# Altium footprint library QuadraticConverterPCBLib.PcbLib: 11 footprints
Each footprint in its own frame and in the unit in brackets; x right, y up, seen from the top. Pads: shape width x height; smd on the part's side, far side on the other; paste and mask are expansions set on the pad; w line width, h text height; cw(c..) or ccw(c..) is an arc to the next point about the centre after c.
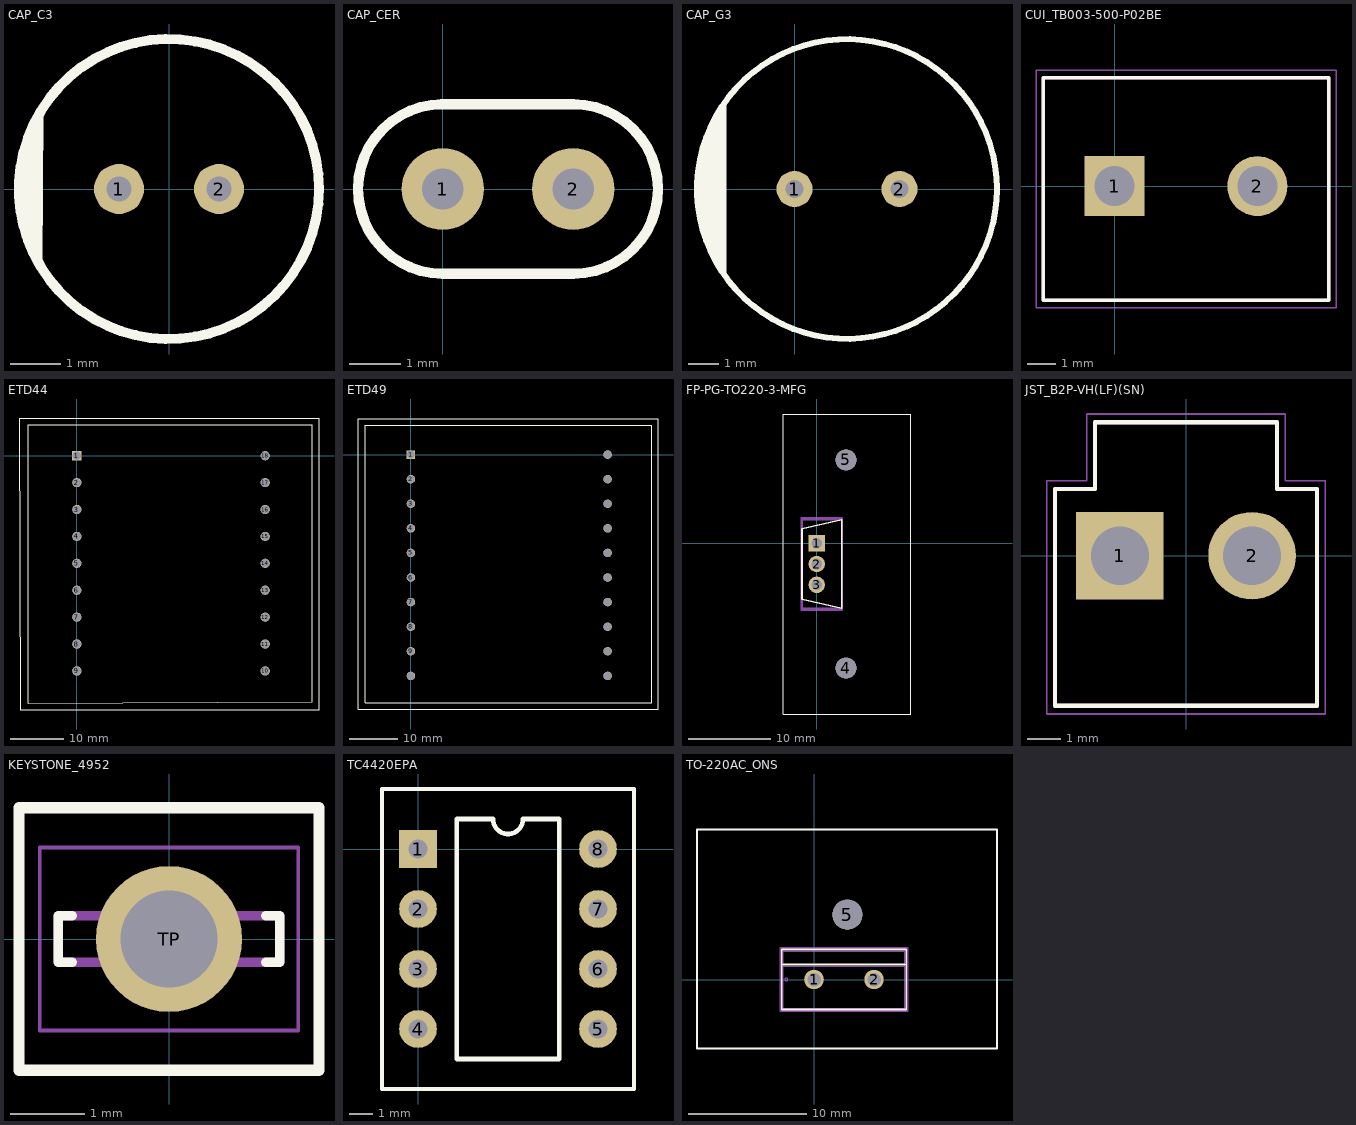
[diagram p0: the footprints below, top view; thin cyan lines are the x and y axes]

## CAP_C3 [mm]
pads (2):
  round 1 hole 0.5: 1(-1,0) 2(1,0)
Top Overlay:
  circle w0.2: c0,0 r3
  region: -2.606,-1.482 -2.703,-1.311 -2.851,-0.946 -2.95,-0.565 -2.999,-0.175 -2.996,0.219 -2.941,0.608 -2.837,0.988 -2.683,1.35 -2.583,1.52
  lines w0.152: -2.606,-1.482 -2.583,1.52
  lines w0.2: -2.606,-1.482 cw(c0,0) -2.583,1.52
3D body "ESK226M050AC3FA.STEP": height 12.5, standoff -16.75, extent -2.563,-2.551 2.429,2.449

## CAP_CER [mm]
pads (2):
  round 1.6 hole 0.8: 1(0,0) 2(2.54,0)
Top Overlay:
  lines w0.2: -0.025,1.651 2.515,1.651 ; 0,1.651 ccw(c0,0) 0,-1.651 2.54,-1.651 ccw(c2.54,0) 2.54,1.651
3D body "C320C104J3G5TA.step": height 6.34, standoff -7, extent -1.27,-1.59 3.805,1.59

## CAP_G3 [mm]
pads (2):
  round 1.2 hole 0.6: 1(0,0) 2(3.5,0)
Top Overlay:
  circle w0.2: c1.75,0 r5
  region: -2.349,-2.87 -2.495,-2.661 -2.744,-2.216 -2.946,-1.748 -3.099,-1.262 -3.202,-0.762 -3.254,-0.255 -3.254,0.255 -3.202,0.762 -3.099,1.262 -2.946,1.748 -2.744,2.216 -2.495,2.661 -2.349,2.87
  lines w0.152: -2.349,-2.87 cw(c1.75,0) -2.349,2.87 -2.349,-2.87
3D body "3D Model.STEP": height 12.5, standoff -20, extent -2.247,-4 5.753,4

## CUI_TB003-500-P02BE [mm]
pads (2):
  rect 2.1x2.1 / inner round 2.1 / far side rect 2.1x2.1 hole 1.4 mask+0.102: 1(0,0)
  round 2.1 hole 1.4 mask+0.102: 2(5,0)
Top Overlay:
  lines w0.127: -2.5,-4 7.5,-4 7.5,3.8 -2.5,3.8 -2.5,-4
Top 3D Body:
  lines w0.127: -2.5,-4 7.5,-4 7.5,3.8 -2.5,3.8 -2.5,-4
Top Courtyard:
  lines w0.05: -2.75,-4.25 -2.75,4.05 7.75,4.05 7.75,-4.25 -2.75,-4.25
3D body "step_temp.STEP": height 10.3, standoff -4, extent -2.964,-3.99 7.536,3.81

## ETD44 [mm]
pads (18):
  rect 1.75x1.75 hole 1.6: 1(0,0)
  round 1.75 hole 1.6: 2(0,-5.08) 3(0,-10.16) 4(0,-15.24) 5(0,-20.32) 6(0,-25.4) 7(0,-30.48) 8(0,-35.56) 9(0,-40.64) 10(35.56,-40.64) 11(35.56,-35.56) 12(35.56,-30.48) 13(35.56,-25.4) 14(35.56,-20.32) 15(35.56,-15.24) 16(35.56,-10.16) 17(35.56,-5.08) 18(35.56,0)
Top Overlay:
  lines w0.152: -10.922,7.112 -10.668,-48.006 45.72,-48.006 45.72,7.112 -9.144,7.112 -10.922,7.112 ; -9.144,-46.736 44.45,-46.482 44.45,5.842 -5.842,5.842 -9.144,5.842 -9.144,-46.736
3D body "User Library-ETD44.STEP": height 38.11, standoff -4.49, extent -7.769,-45.155 43.231,4.445

## ETD49 [mm]
pads (20):
  rect 1.75x1.75 hole 1.6: 1(0,0)
  round 1.75 hole 1.6: 2(0,-5.08) 3(0,-10.16) 4(0,-15.24) 5(0,-20.32) 6(0,-25.4) 7(0,-30.48) 8(0,-35.56) 9(0,-40.64) 10(0,-45.72) 11(40.64,-45.72) 12(40.64,-40.64) 13(40.64,-35.56) 14(40.64,-30.48) 15(40.64,-25.4) 16(40.64,-20.32) 17(40.64,-15.24) 18(40.64,-10.16) 19(40.64,-5.08) 20(40.64,0)
Top Overlay:
  lines w0.152: -10.922,-52.578 -10.922,7.366 12.954,7.366 51.054,7.366 51.054,-52.578 -10.922,-52.578 ; -9.398,-51.308 -9.398,6.096 21.082,6.096 49.784,6.096 49.784,-51.308 -9.398,-51.308
3D body "ETD49.STEP": height 40.57, standoff -4.39, extent -7.772,-50.026 48.438,4.674

## FP-PG-TO220-3-MFG [mm]
pads (5):
  rect 2x2 hole 1.3 paste-2539.97 mask+0: 1(0,0)
  round 2 hole 1.3 paste-2539.97 mask+0: 2(0,-2.54) 3(0,-5.08)
  round 2.54 hole 2.54 unplated: 4(3.556,-15.24) 5(3.556,10.16)
Top Overlay:
  lines w0.152: -4.064,-20.828 11.43,-20.828 11.43,15.748 -4.064,15.748 -4.064,-20.828
  lines w0.2: 3.025,-7.915 -1.805,-6.84 -1.805,1.76 3.025,2.835 ; 3.025,-7.865 3.025,2.785
Top Assembly:
  lines w0.2: -1.905,-8.142 3.125,-8.142 3.125,3.062 -1.905,3.062 -1.905,-8.142
Top 3D Body:
  lines w0.2: -1.805,-7.915 3.025,-7.915 3.025,2.835 -1.805,2.835 -1.805,-7.915
Top Courtyard:
  lines w0.2: -1.905,-8.142 3.125,-8.142 3.125,3.062 -1.905,3.062 -1.905,-8.142
Top Component Center:
  lines w0.1: 0.61,-3.04 0.61,-2.04
3D body "Trans_Infineon_IRF3710PBF_eec.STEP": height 20.85, standoff -8.23, extent -1.59,-7.655 3.243,2.605
3D body "3D Model.step": height 63.51, standoff -3.49, extent -2.844,-19.548 9.946,14.468

## JST_B2P-VH(LF)(SN) [mm]
height 10.9
pads (2):
  rect 2.625x2.625 / inner round 2.625 / far side rect 2.625x2.625 hole 1.75: 1(-1.98,0)
  round 2.625 hole 1.75: 2(1.98,0)
Top Overlay:
  lines w0.127: -3.93,-4.5 -3.93,2 -2.73,2 -2.73,4 2.73,4 2.73,2 3.93,2 3.93,-4.5 -3.93,-4.5
Top 3D Body:
  lines w0.127: -3.93,-4.5 -3.93,2 -2.73,2 -2.73,4 2.73,4 2.73,2 3.93,2 3.93,-4.5 -3.93,-4.5
Top Courtyard:
  lines w0.05: -4.18,-4.75 -4.18,2.25 -2.98,2.25 -2.98,4.25 2.98,4.25 2.98,2.25 4.18,2.25 4.18,-4.75 -4.18,-4.75
3D body "step_temp.STEP": height 10.9, standoff -3.7, extent -3.93,-4.5 3.93,4

## KEYSTONE_4952 [mm]
height 6.3
pads (1):
  round 1.98 hole 1.32: TP(0,0)
Top Overlay:
  lines w0.127: -1.31,-0.315 -1.5,-0.315 -1.5,0.315 -1.31,0.315 ; 1.31,-0.315 1.5,-0.315 1.5,0.315 1.31,0.315
  lines w0.152: -2.032,-1.778 2.032,-1.778 2.032,1.778 -2.032,1.778 -2.032,-1.778
Top 3D Body:
  lines w0.127: -1.5,-0.315 -1.5,0.315 1.5,0.315 1.5,-0.315 -1.5,-0.315
Top Courtyard:
  lines w0.05: -1.75,-1.24 1.75,-1.24 1.75,1.24 -1.75,1.24 -1.75,-1.24
3D body "4952.STEP": height 6.3, standoff -4.99, extent -0.381,-1.499 0.254,1.499

## TC4420EPA [mm]
pads (8):
  rect 1.6x1.6 hole 0.8: 1(0,0)
  round 1.6 hole 0.8: 2(0,-2.54) 3(0,-5.08) 4(0,-7.62) 5(7.62,-7.62) 6(7.62,-5.08) 7(7.62,-2.54) 8(7.62,0)
Top Overlay:
  lines w0.152: -1.524,-10.16 -1.524,2.54 -0.254,2.54 9.144,2.54 9.144,-10.16 -1.524,-10.16
  lines w0.2: 1.635,-8.89 5.985,-8.89 5.985,1.27 4.445,1.27 cw(c3.81,1.27) 3.175,1.27 1.635,1.27 1.635,-8.89
3D body "PDIP8_300MC_MCH.step": height 5.46, standoff -2.54, extent -0.254,-8.89 7.874,1.27

## TO-220AC_ONS [mil]
pads (3):
  round 65 / inner round 60 / far side round 65 hole 45 paste-99999 mask+0: 1(0,0) 2(200,0)
  round 100 hole 100 unplated: 5(111,216)
Top Overlay:
  lines w6: -102.5,50 302.5,50 ; -390,-230 610,-230 610,500 -390,500 -390,-230 ; -107.5,-100 -107.5,100 307.5,100 307.5,-100 -107.5,-100
Top 3D Body:
  circle w0: c-92.5,0 r5
  lines w1: -102.5,45 302.5,45 ; -102.5,-95 -102.5,95 302.5,95 302.5,-95 -102.5,-95
Top Courtyard:
  lines w6: -112.5,-105 312.5,-105 312.5,105 -112.5,105 -112.5,-105
3D body "3D Model.step": height 850, standoff -332, extent -95.25,-72.25 297.25,102.75
3D body "Heat Sink.step": height 985.15, standoff -156.98, extent -342.75,-175 562.75,454.92